# Altium footprint library golgi_bot_ESP_V2.02.PcbLib: 20 footprints (part 2 of 2)
Each footprint in its own frame and in the unit in brackets; x right, y up, seen from the top. Pads: shape width x height; smd on the part's side, far side on the other; paste and mask are expansions set on the pad; w line width, h text height; cw(c..) or ccw(c..) is an arc to the next point about the centre after c.
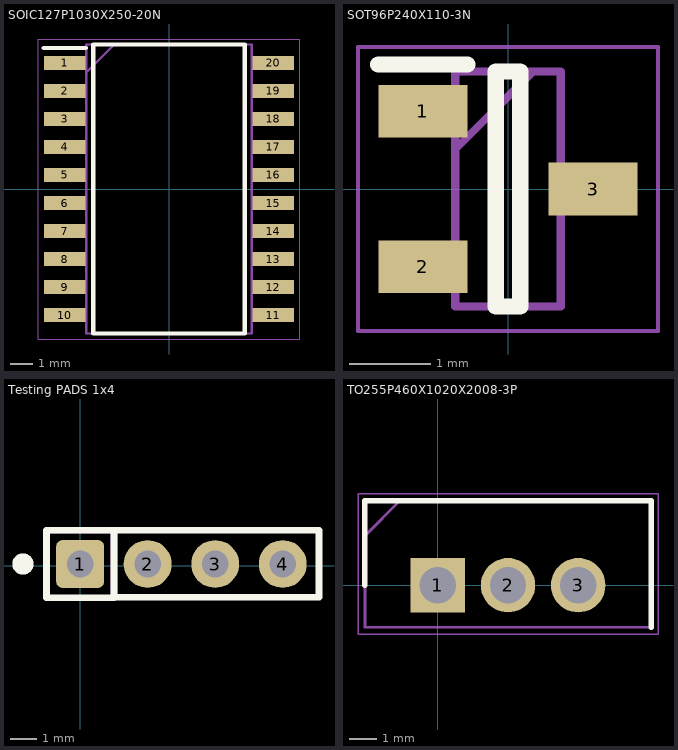
[diagram p1: the footprints below, top view; thin cyan lines are the x and y axes]

## SOIC127P1030X250-20N [mm]
pads (20):
  rect 1.9x0.65 smd: 1(-4.725,5.715) 2(-4.725,4.445) 3(-4.725,3.175) 4(-4.725,1.905) 5(-4.725,0.635) 6(-4.725,-0.635) 7(-4.725,-1.905) 8(-4.725,-3.175) 9(-4.725,-4.445) 10(-4.725,-5.715) 11(4.725,-5.715) 12(4.725,-4.445) 13(4.725,-3.175) 14(4.725,-1.905) 15(4.725,-0.635) 16(4.725,0.635) 17(4.725,1.905) 18(4.725,3.175) 19(4.725,4.445) 20(4.725,5.715)
Top Overlay:
  lines w0.2: -5.675,6.39 -3.775,6.39 ; -3.425,-6.55 -3.425,6.55 3.425,6.55 3.425,-6.55 -3.425,-6.55
Mechanical 13:
  lines w0.1: -3.75,5.28 -2.48,6.55 ; -3.75,-6.55 -3.75,6.55 3.75,6.55 3.75,-6.55 -3.75,-6.55
Mechanical 15:
  lines w0.05: -5.925,-6.8 -5.925,6.8 5.925,6.8 5.925,-6.8 -5.925,-6.8
3D body "74HC244D.stp": height 2.5, standoff 0, extent -5.15,-6.55 5.15,6.55

## SOT96P240X110-3N [mm]
pads (3):
  rect 1.1x0.65 smd: 1(-1.05,0.96) 2(-1.05,-0.96) 3(1.05,0)
Top Overlay:
  lines w0.2: -1.6,1.535 -0.5,1.535 ; -0.15,-1.45 -0.15,1.45 0.15,1.45 0.15,-1.45 -0.15,-1.45
Mechanical 13:
  lines w0.1: -0.65,0.49 0.31,1.45 ; -0.65,-1.45 -0.65,1.45 0.65,1.45 0.65,-1.45 -0.65,-1.45
Mechanical 15:
  lines w0.05: -1.85,-1.75 -1.85,1.75 1.85,1.75 1.85,-1.75 -1.85,-1.75
3D body "BC817-25-7-F.stp": height 1.1, standoff 0, extent -1.2,-1.45 1.2,1.45

## Testing PADS 1x4 [mm]
pads (4):
  rrect25% 1.8x1.8 hole 1: 1(-0.01,0.075)
  round 1.8 hole 1: 2(2.53,0.075) 3(5.07,0.075) 4(7.61,0.075)
Top Overlay:
  circle w0.5: c-2.16,0.075 r0.15
  lines w0.254: -1.28,1.345 8.975,1.345 8.975,-0.375 8.975,-1.175 1.28,-1.175 1.26,-1.195 ; -1.28,1.345 -1.28,-1.195 1.26,-1.195 ; -1.28,1.345 1.26,1.345 1.26,-1.195
Mechanical 3:
  lines w0.254: -1.28,-1.195 -1.28,1.345 1.26,1.345 1.26,-1.195

## TO255P460X1020X2008-3P [mm]
pads (3):
  rect 1.98x1.98 hole 1.32: 1(0,0)
  round 1.98 hole 1.32: 2(2.55,0) 3(5.1,0)
Top Overlay:
  lines w0.2: -2.65,0 -2.65,3.07 7.75,3.07 7.75,-1.53
Mechanical 13:
  lines w0.1: -2.65,1.795 -1.375,3.07 ; -2.65,-1.53 7.75,-1.53 7.75,3.07 -2.65,3.07 -2.65,-1.53
Mechanical 15:
  lines w0.05: -2.9,-1.78 8,-1.78 8,3.32 -2.9,3.32 -2.9,-1.78
3D body "L7805CV.stp": height 19.21, standoff -18.2, extent -2.55,-1.53 7.65,3.07